# Altium schematic symbol library LED_2Pin.Schlib: 1 symbol
Pins are listed as number, name and electrical type; pins without a type are passive.

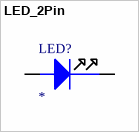
[diagram p0: symbol LED_2Pin]

## LED_2Pin
designator LED?
pins: A, C